# Altium schematic symbol library 430450400.SchLib: 1 symbol
Pins are listed as number, name and electrical type; pins without a type are passive.

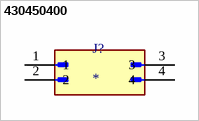
[diagram p0: symbol 430450400]

## 430450400
designator J?
MP: 430450400; Package: None; Value: *; Availability: Unavailable; Price: None
pins: 1, 2, 3, 4